# EAGLE library part PF2X10 (library A_CONN)
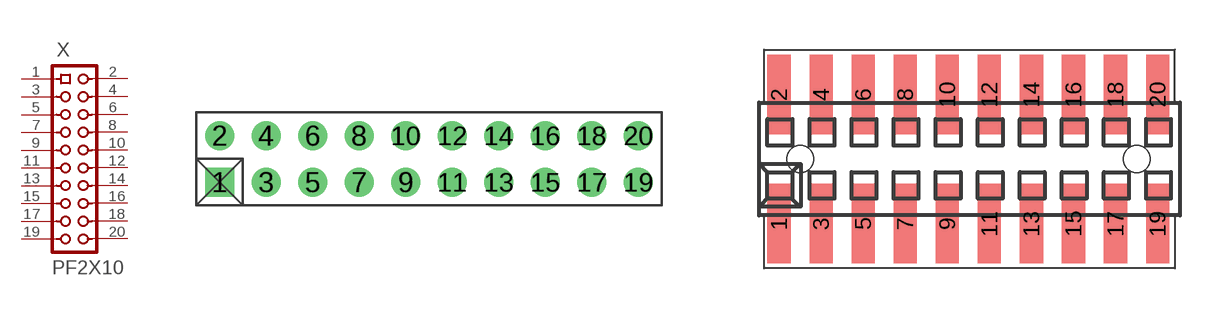
[diagram p1: symbol with the pads of PF2X10; footprints PF2X10, PF2X10SMD50MIL_POS]

Designator prefix X

## PF2X10  [PF2X10]
1  1  pas
2  2  pas
3  3  pas
4  4  pas
5  5  pas
6  6  pas
7  7  pas
8  8  pas
9  9  pas
10  10  pas
11  11  pas
12  12  pas
13  13  pas
14  14  pas
15  15  pas
16  16  pas
17  17  pas
18  18  pas
19  19  pas
20  20  pas

## PF2X101,27MMSMDPOS  [PF2X10SMD50MIL_POS]
Pads as for PF2X10

## PF2X101.27MM (REICHELT: SL 2x10G SMD1.27)  [PF2X10SMD50MIL]
P1  1  pas
P2  2  pas
P3  3  pas
P4  4  pas
P5  5  pas
P6  6  pas
P7  7  pas
P8  8  pas
P9  9  pas
P10  10  pas
P11  11  pas
P12  12  pas
P13  13  pas
P14  14  pas
P15  15  pas
P16  16  pas
P17  17  pas
P18  18  pas
P19  19  pas
P20  20  pas

## PF2X101.27MMTHM  [PF2X10THM1.27MM]
Pads as for PF2X10

## PF2X102MM  [PF2X10-2MM]
Pads as for PF2X10

## PF2X10TMM  [TMM110-D-SM]
Pads as for PF2X10

## PF2X10WW  [PFW2X10W]
Pads as for PF2X10

## Footprint PF2X10 (pad centres in mm)
drill 0.991 pad 1.575 square: 1 0,0
drill 0.991 pad 1.575: 2 0,2.54; 3 2.54,0; 4 2.54,2.54; 5 5.08,0; 6 5.08,2.54; 7 7.62,0; 8 7.62,2.54; 9 10.16,0; 10 10.16,2.54; 11 12.7,0; 12 12.7,2.54; 13 15.24,0; 14 15.24,2.54; 15 17.78,0; 16 17.78,2.54; 17 20.32,0; 18 20.32,2.54; 19 22.86,0; 20 22.86,2.54

## Footprint PF2X10SMD50MIL_POS (pad centres in mm)
smd 0.7 x 2.4: 1 -2.54,-1.95; 2 -2.54,1.95; 3 -1.27,-1.95; 4 -1.27,1.95; 5 0,-1.95; 6 0,1.95; 7 1.27,-1.95; 8 1.27,1.95; 9 2.54,-1.95; 10 2.54,1.95; 11 3.81,-1.95; 12 3.81,1.95; 13 5.08,-1.95; 14 5.08,1.95; 15 6.35,-1.95; 16 6.35,1.95; 17 7.62,-1.95; 18 7.62,1.95; 19 8.89,-1.95; 20 8.89,1.95
hole 0.8 at -1.905,0
hole 0.8 at 8.255,0

## Footprint PF2X10SMD50MIL (pad centres in mm)
smd 0.75 x 2.8: P1 -5.715,-1.85; P2 -5.715,1.85; P3 -4.445,-1.85; P4 -4.445,1.85; P5 -3.175,-1.85; P6 -3.175,1.85; P7 -1.905,-1.85; P8 -1.905,1.85; P9 -0.635,-1.85; P10 -0.635,1.85; P11 0.635,-1.85; P12 0.635,1.85; P13 1.905,-1.85; P14 1.905,1.85; P15 3.175,-1.85; P16 3.175,1.85; P17 4.445,-1.85; P18 4.445,1.85; P19 5.715,-1.85; P20 5.715,1.85

## Footprint PF2X10THM1.27MM (pad centres in mm)
drill 0.6 pad 1: 1 -5.715,-0.635; 2 -5.715,0.635; 3 -4.445,-0.635; 4 -4.445,0.635; 5 -3.175,-0.635; 6 -3.175,0.635; 7 -1.905,-0.635; 8 -1.905,0.635; 9 -0.635,-0.635; 10 -0.635,0.635; 11 0.635,-0.635; 12 0.635,0.635; 13 1.905,-0.635; 14 1.905,0.635; 15 3.175,-0.635; 16 3.175,0.635; 17 4.445,-0.635; 18 4.445,0.635; 19 5.715,-0.635; 20 5.715,0.635

## Footprint PF2X10-2MM (pad centres in mm)
drill 0.813 pad 1.397 square: 1 -9,-1
drill 0.813 pad 1.397: 2 -9,1; 3 -7,-1; 4 -7,1; 5 -5,-1; 6 -5,1; 7 -3,-1; 8 -3,1; 9 -1,-1; 10 -1,1; 11 1,-1; 12 1,1; 13 3,-1; 14 3,1; 15 5,-1; 16 5,1; 17 7,-1; 18 7,1; 19 9,-1; 20 9,1

## Footprint TMM110-D-SM (pad centres in mm)
smd 1 x 3.3: 1 -9,-2.15; 2 -9,2.15; 3 -7,-2.15; 4 -7,2.15; 5 -5,-2.15; 6 -5,2.15; 7 -3,-2.15; 8 -3,2.15; 9 -1,-2.15; 10 -1,2.15; 11 1,-2.15; 12 1,2.15; 13 3,-2.15; 14 3,2.15; 15 5,-2.15; 16 5,2.15; 17 7,-2.15; 18 7,2.15; 19 9,-2.15; 20 9,2.15

## Footprint PFW2X10W (pad centres in mm)
drill 0.991 pad 1.575 square: 1 0,0
drill 0.991 pad 1.575: 2 0,2.54; 3 2.54,0; 4 2.54,2.54; 5 5.08,0; 6 5.08,2.54; 7 7.62,0; 8 7.62,2.54; 9 10.16,0; 10 10.16,2.54; 11 12.7,0; 12 12.7,2.54; 13 15.24,0; 14 15.24,2.54; 15 17.78,0; 16 17.78,2.54; 17 20.32,0; 18 20.32,2.54; 19 22.86,0; 20 22.86,2.54